# Altium footprint library Connect8_SMD.PcbLib: 1 footprints
Each footprint in its own frame and in the unit in brackets; x right, y up, seen from the top. Pads: shape width x height; smd on the part's side, far side on the other; paste and mask are expansions set on the pad; w line width, h text height; cw(c..) or ccw(c..) is an arc to the next point about the centre after c.
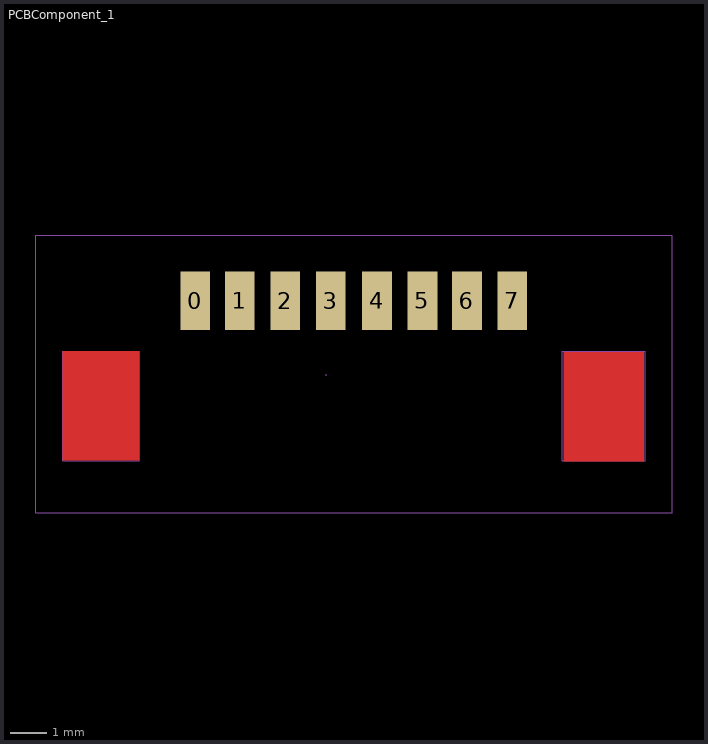
[diagram p0: the footprint, top view; thin cyan lines are the x and y axes]

## PCBComponent_1 [mil]
pads (8):
  rect 31.89x62.99 smd: 0(-46981,-45390) 1(-46933,-45390) 2(-46884,-45390) 3(-46835,-45390) 4(-46785,-45390) 5(-46736,-45390) 6(-46688,-45390) 7(-46639,-45390)
Top Layer:
  rectangle: -46584,-45563 -46497,-45445
  rectangle: -47124,-45562 -47041,-45444
Mechanical 1:
  circle w0.25: c-46840,-45470 r0.12
  lines w0.5: -47152.87,-45618.63 -47152.87,-45319.05 -46466.78,-45319.05 -46466.78,-45618.63 -47152.87,-45618.63 ; -47123.79,-45562.21 -47123.79,-45444.1 -47041.11,-45444.1 -47041.11,-45562.21 -47123.79,-45562.21 ; -46585.18,-45562.21 -46495.84,-45562.21 -46495.84,-45444.1 -46585.18,-45444.1 -46585.18,-45562.21
3D body "JST - GH - SMD (R) - 8Pin - 1.25mm.stp": height 139.14, standoff 0, extent -47111.73,-45573 -46508.27,-45362.5